# EAGLE library part AAT4902 (library gee_s)
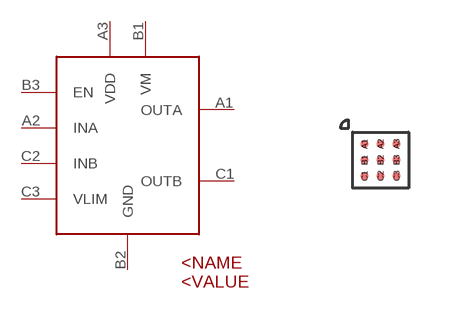
[diagram p39: symbol with the pads of BGA9-0.4MM; footprint BGA9-0.4MM]

Designator prefix BGA

## AAT4902BGA, AAT4902BGABGA  [BGA9-0.4MM]
A1  OUTA
A2  INA
A3  VDD
B1  VM
B2  GND
B3  EN
C1  OUTB
C2  INB
C3  VLIM

## Footprint BGA9-0.4MM (pad centres in mm)
smd 0.2 x 0.2: A1 -0.4,0.4; A2 0,0.4; A3 0.4,0.4; B1 -0.4,0; B2 0,0; B3 0.4,0; C1 -0.4,-0.4; C2 0,-0.4; C3 0.4,-0.4